# EAGLE library part DS1393 (library anton)
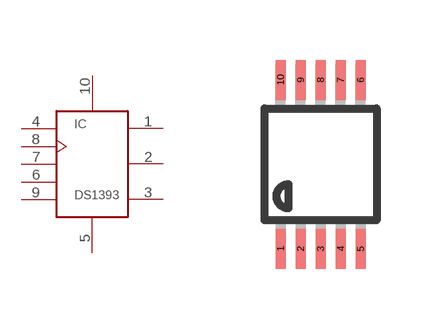
[diagram p2: symbol with the pads of MSOP10; footprint MSOP10]

Designator prefix IC

## DS1393  [MSOP10]
1  X1  pas
2  X2  pas
3  VBACKUP  pas
4  CE  in
5  GND  pwr
6  RST  out
7  I/O
8  SCLK  in
9  SQW  out
10  VCC  pwr

## Footprint MSOP10 (pad centres in mm)
10-Lead Mini Small Outline Package [MSOP] (RM-10) Source: http://www.analog.com/UploadedFiles/Data_Sheets/35641221898805SSM2167_b.pdf COMPLIANT TO JEDEC STANDARDS MO-187BA
smd 0.25 x 1: 1 -1,-2.113; 2 -0.5,-2.113; 3 0,-2.113; 4 0.5,-2.113; 5 1,-2.113; 6 1,2.113; 7 0.5,2.113; 8 0,2.113; 9 -0.5,2.113; 10 -1,2.113